# EAGLE library part ALPS_BLUE (library audio-pots)
Alps Blue potentiometer
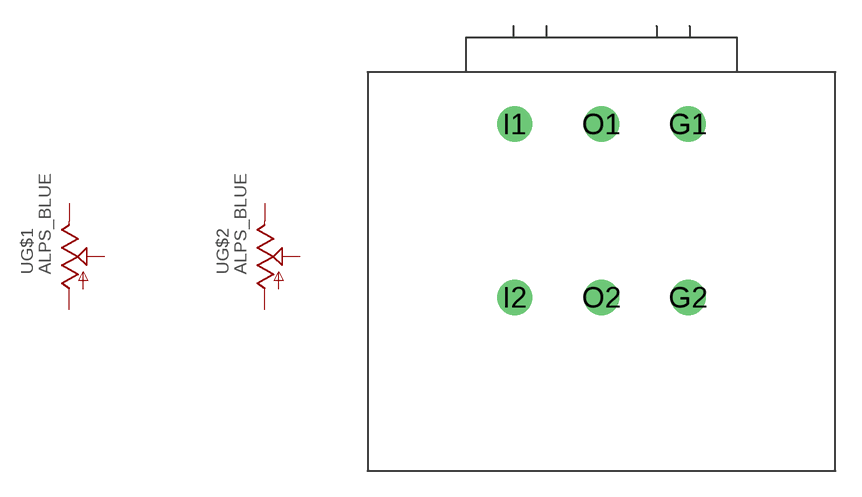
[diagram p1: symbol with the pads of ALPS_RK27; footprint ALPS_RK27]

Designator prefix -; gates G$1=POT G$2=POT

## ALPS_BLUE  [ALPS_RK27]
G1  G$1:1  pas
G2  G$2:1  pas
I1  G$1:3  pas
I2  G$2:3  pas
O1  G$1:2  pas
O2  G$2:2  pas

## Footprint ALPS_RK27 (pad centres in mm)
ALPS RK27 dual gang potentiometer, no loudness tap pins
drill 1.27 pad 2.032: G1 5,4.5; G2 5,-5.5; I1 -5,4.5; I2 -5,-5.5; O1 0,4.5; O2 0,-5.5